# Altium schematic symbol library WE-CNSW HF.SchLib: 5 symbols
Pins are listed as number, name and electrical type; pins without a type are passive.

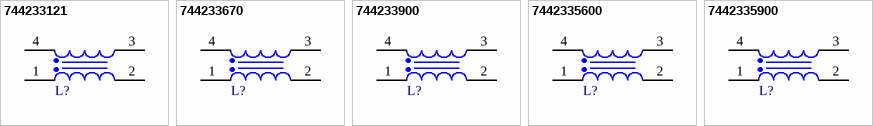
[diagram p0: symbols 744233121 to 7442335900]

## 744233121
designator L?, comment 120Ohm  (value not drawn)
WE-CNSW HF SMT Common Mode Line Filter, size 0805, 120Ohm, 167nH, 50V; Manufacturer: Wurth Elektronik; Manufacturer Part Number: 744233121; Case/Size Code: 0805; Cut Off Frequency: 4.5GHz; DC Resistance Max: 300mOhm; Insulation Test Voltage: 125VAC; Rated Current: 0.28A; Winding Style: bifiliar; ComponentLink1Description: Manufacturer Link; ComponentLink1URL: https://www.we-online.com/redexpert/article/744233121?ad; ComponentLink2Description: Datasheet; ComponentLink2URL: https://www.we-online.com/redexpert/spec/744233121?ad; Category: Common Mode Chokes; Match Code: WE-CNSW HF; Mount: Surface Mount; Operating Temperature Max: 105°C; Operating Temperature Min: -40°C; Packaging: Tape and Reel; Length: 2mm; Width: 1.2mm; Height: 1.2mm; Impedance @100MHz: 120Ohm; Inductance: 167nH; Rated Voltage: 50V
footprint WE-CNSW HF_0805
pins: 1, 2, 3, 4

## 744233670
designator L?, comment 67Ohm  (value not drawn)
WE-CNSW HF SMT Common Mode Line Filter, size 0805, 67Ohm, 92nH, 50V; Manufacturer: Wurth Elektronik; Manufacturer Part Number: 744233670; Case/Size Code: 0805; Cut Off Frequency: 6.5GHz; DC Resistance Max: 240mOhm; Insulation Test Voltage: 125VAC; Rated Current: 0.32A; Winding Style: bifiliar; ComponentLink1Description: Manufacturer Link; ComponentLink1URL: https://www.we-online.com/redexpert/article/744233670?ad; ComponentLink2Description: Datasheet; ComponentLink2URL: https://www.we-online.com/redexpert/spec/744233670?ad; Category: Common Mode Chokes; Match Code: WE-CNSW HF; Mount: Surface Mount; Operating Temperature Max: 105°C; Operating Temperature Min: -40°C; Packaging: Tape and Reel; Length: 2mm; Width: 1.2mm; Height: 1.2mm; Impedance @100MHz: 67Ohm; Inductance: 92nH; Rated Voltage: 50V
footprint WE-CNSW HF_0805
pins: 1, 2, 3, 4

## 744233900
designator L?, comment 90Ohm  (value not drawn)
WE-CNSW HF SMT Common Mode Line Filter, size 0805, 90Ohm, 131nH, 50V; Manufacturer: Wurth Elektronik; Manufacturer Part Number: 744233900; Case/Size Code: 0805; Cut Off Frequency: 4.5GHz; DC Resistance Max: 300mOhm; Insulation Test Voltage: 125VAC; Rated Current: 0.28A; Winding Style: bifiliar; ComponentLink1Description: Manufacturer Link; ComponentLink1URL: https://www.we-online.com/redexpert/article/744233900?ad; ComponentLink2Description: Datasheet; ComponentLink2URL: https://www.we-online.com/redexpert/spec/744233900?ad; Category: Common Mode Chokes; Match Code: WE-CNSW HF; Mount: Surface Mount; Operating Temperature Max: 105°C; Operating Temperature Min: -40°C; Packaging: Tape and Reel; Length: 2mm; Width: 1.2mm; Height: 1.2mm; Impedance @100MHz: 90Ohm; Inductance: 131nH; Rated Voltage: 50V
footprint WE-CNSW HF_0805
pins: 1, 2, 3, 4

## 7442335600
designator L?, comment 60Ohm  (value not drawn)
WE-CNSW HF SMT Common Mode Line Filter, size 0504, 60Ohm, 100nH, 20V; Manufacturer: Wurth Elektronik; Manufacturer Part Number: 7442335600; Case/Size Code: 0504; Cut Off Frequency: 10GHz; DC Resistance Max: 220mOhm; Insulation Test Voltage: 125VAC; Rated Current: 0.6A; Winding Style: bifiliar; ComponentLink1Description: Manufacturer Link; ComponentLink1URL: https://www.we-online.com/redexpert/article/7442335600?ad; ComponentLink2Description: Datasheet; ComponentLink2URL: https://www.we-online.com/redexpert/spec/7442335600?ad; Category: Common Mode Chokes; Match Code: WE-CNSW HF; Mount: Surface Mount; Operating Temperature Max: 105°C; Operating Temperature Min: -40°C; Packaging: Tape and Reel; Length: 1.2mm; Width: 1mm; Height: 0.9mm; Impedance @100MHz: 60Ohm; Inductance: 100nH; Rated Voltage: 20V
footprint WE-CNSW HF_0504
pins: 1, 2, 3, 4

## 7442335900
designator L?, comment 90Ohm  (value not drawn)
WE-CNSW HF SMT Common Mode Line Filter, size 0504, 90Ohm, 170nH, 20V; Manufacturer: Wurth Elektronik; Manufacturer Part Number: 7442335900; Case/Size Code: 0504; Cut Off Frequency: 8GHz; DC Resistance Max: 270mOhm; Insulation Test Voltage: 125VAC; Rated Current: 0.5A; Winding Style: bifiliar; ComponentLink1Description: Manufacturer Link; ComponentLink1URL: https://www.we-online.com/redexpert/article/7442335900?ad; ComponentLink2Description: Datasheet; ComponentLink2URL: https://www.we-online.com/redexpert/spec/7442335900?ad; Category: Common Mode Chokes; Match Code: WE-CNSW HF; Mount: Surface Mount; Operating Temperature Max: 105°C; Operating Temperature Min: -40°C; Packaging: Tape and Reel; Length: 1.2mm; Width: 1mm; Height: 0.9mm; Impedance @100MHz: 90Ohm; Inductance: 170nH; Rated Voltage: 20V
footprint WE-CNSW HF_0504
pins: 1, 2, 3, 4